# Altium footprint library TE_1050.PcbLib: 1 footprints
Each footprint in its own frame and in the unit in brackets; x right, y up, seen from the top. Pads: shape width x height; smd on the part's side, far side on the other; paste and mask are expansions set on the pad; w line width, h text height; cw(c..) or ccw(c..) is an arc to the next point about the centre after c.
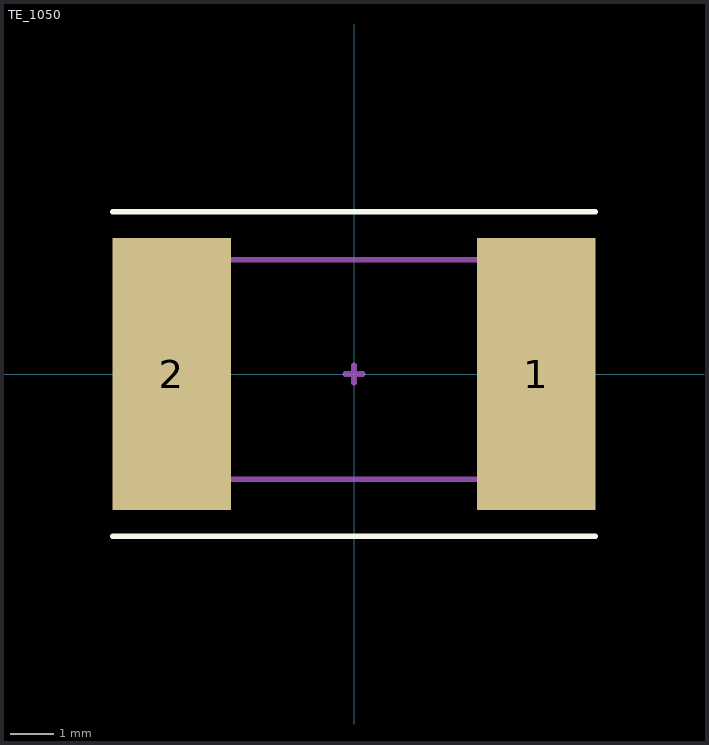
[diagram p0: the footprint, top view; thin cyan lines are the x and y axes]

## TE_1050 [mm]
pads (2):
  rect 2.7x6.2 smd: 1(4.15,0) 2(-4.15,0)
Top Overlay:
  lines w0.127: -5.5,-3.7 5.5,-3.7 ; -5.5,3.7 5.5,3.7
Mechanical 13:
  lines w0.127: -5.2,-2.4 5.3,-2.4 5.3,2.6 -5.2,2.6 -5.2,-2.4
Mechanical 15:
  lines w0.127: -0.2,0 0,0 ; 0,-0.2 0,0 ; 0,0.2 0,0 ; 0.2,0 0,0
3D body "c-2176076-5-ba-3d.stp": height 0.82, standoff 0, extent -5.25,-2.4 5.25,2.6